# Altium footprint library 5029.PcbLib: 3 footprints
Each footprint in its own frame and in the unit in brackets; x right, y up, seen from the top. Pads: shape width x height; smd on the part's side, far side on the other; paste and mask are expansions set on the pad; w line width, h text height; cw(c..) or ccw(c..) is an arc to the next point about the centre after c.
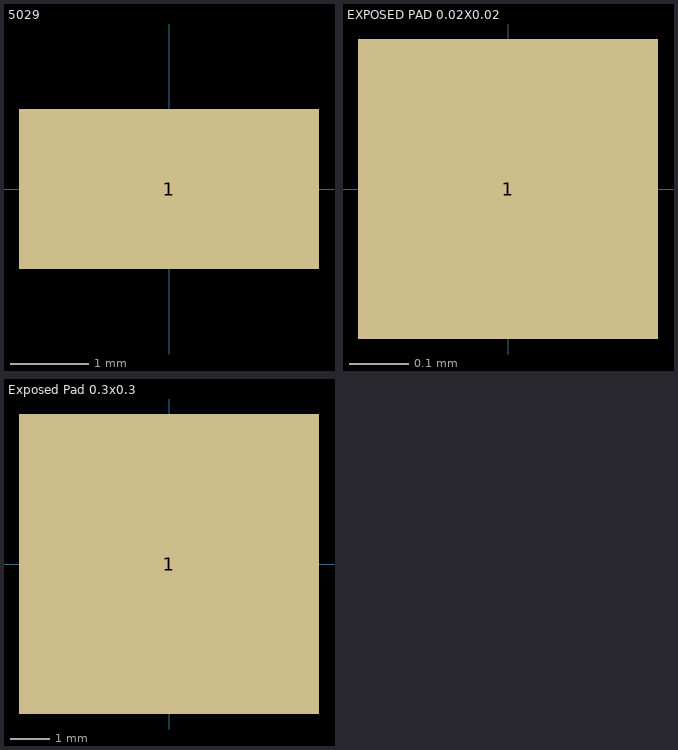
[diagram p0: the footprints below, top view; thin cyan lines are the x and y axes]

## 5029 [mil]
pads (1):
  rect 150x80 smd: 1(0,0)

## EXPOSED PAD 0.02X0.02 [mil]
pads (1):
  rect 20x20 smd: 1(0,0)

## Exposed Pad 0.3x0.3 [mil]
pads (1):
  rect 300x300 smd: 1(0,0)